# Altium integrated library MAX30102EFD&plus_.IntLib: 2 symbols
Pins are listed as number, name and electrical type; pins without a type are passive.

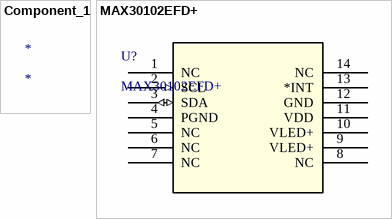
[diagram p0: symbols Component_1 to MAX30102EFD+]

## Component_1
designator *

## MAX30102EFD+
designator U?
No Description Available; Mfr_Name: Analog Devices Inc; Copyright: Copyright (C) 2023 Ultra Librarian. All rights reserved.; Manufacturer_Part_Number: MAX30102EFD+; RefDes: RefDes; Type: DEV
footprint 21-1048_F143A5+1_MXM
pins: 1 NC, 2 SCL (in), 3 SDA (io), 4 PGND (power), 5 NC, 6 NC, 7 NC, 8 NC, 9 VLED+, 10 VLED+, 11 VDD (power), 12 GND (power), 13 *INT, 14 NC